# Altium schematic symbol library MyComponets.SchLib: 2 symbols
Pins are listed as number, name and electrical type; pins without a type are passive.

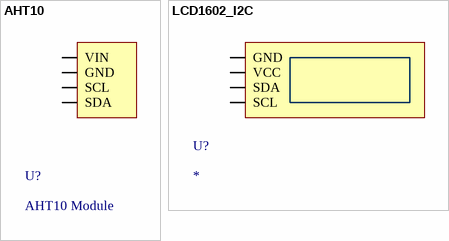
[diagram p0: symbols AHT10 to LCD1602_I2C]

## AHT10
designator U?, comment AHT10 Module
pins: 4 VIN "double cathod", 5 GND "double cathod", 7 SDA "double cathod", ?1 SCL "double cathod"

## LCD1602_I2C
designator U?
Module LCD1602 I2C
pins: 1 GND "double cathod", 2 VCC "double cathod", 3 SDA "double cathod", 4 SCL "double cathod"